# EAGLE library part MCP2502X/5X (library balto)
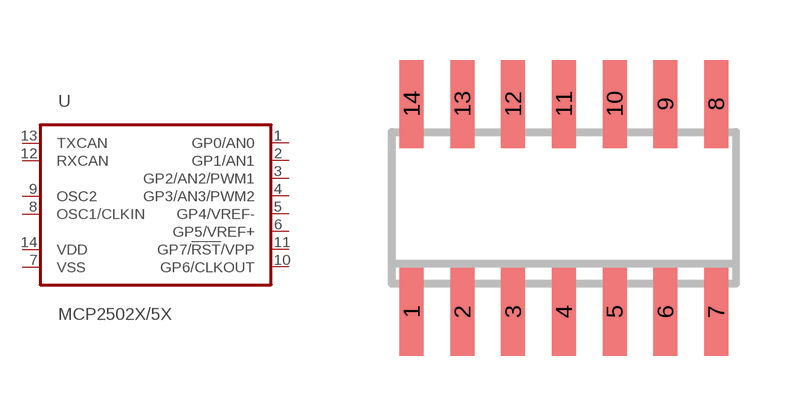
[diagram p15: symbol with the pads of SOIC14; footprint SOIC14]

Designator prefix U

## MCP2502X/5X  [SOIC14]
1  GP0/AN0
2  GP1/AN1
3  GP2/AN2/PWM1
4  GP3/AN3/PWM2
5  GP4/VREF-
6  GP5/VREF+
7  VSS  pwr
8  OSC1/CLKIN
9  OSC2
10  GP6/CLKOUT
11  GP7/!RST!/VPP
12  RXCAN
13  TXCAN
14  VDD  pwr

## Footprint SOIC14 (pad centres in mm)
smd 0.6 x 2.2: 1 -3.81,-2.6; 2 -2.54,-2.6; 3 -1.27,-2.6; 4 0,-2.6; 5 1.27,-2.6; 6 2.54,-2.6; 7 3.81,-2.6; 8 3.81,2.6; 9 2.54,2.6; 10 1.27,2.6; 11 0,2.6; 12 -1.27,2.6; 13 -2.54,2.6; 14 -3.81,2.6